# EAGLE library part MONOLITHIC (library microcodes)
3.3V to 36V, 2MHz, 0.6A Step-Down Converter
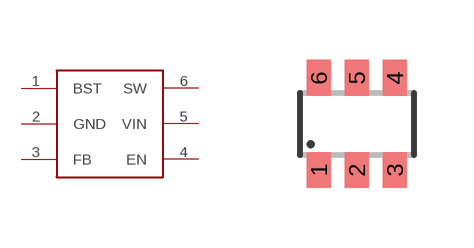
[diagram p3: symbol with the pads of SOT23-6; footprint SOT23-6]

Designator prefix -

## MONOLITHIC  [SOT23-6]
1  BST
2  GND  pwr
3  FB  in
4  EN  in
5  VIN  pwr
6  SW  out

## Footprint SOT23-6 (pad centres in mm)
Small Outline Transistor 6 lead from https://www.snapeda.com/parts/STT4P3LLH6/STMicroelectronics/view-part/?ref=search&t=SOT23-6L
smd 0.6 x 0.9: 1 -0.95,-1.15; 2 0,-1.15; 3 0.95,-1.15; 4 0.95,1.15; 5 0,1.15; 6 -0.95,1.15